# Altium schematic symbol library Connectors Rectangular 4.20 MiniFit.SchLib: 12 symbols
Pins are listed as number, name and electrical type; pins without a type are passive.

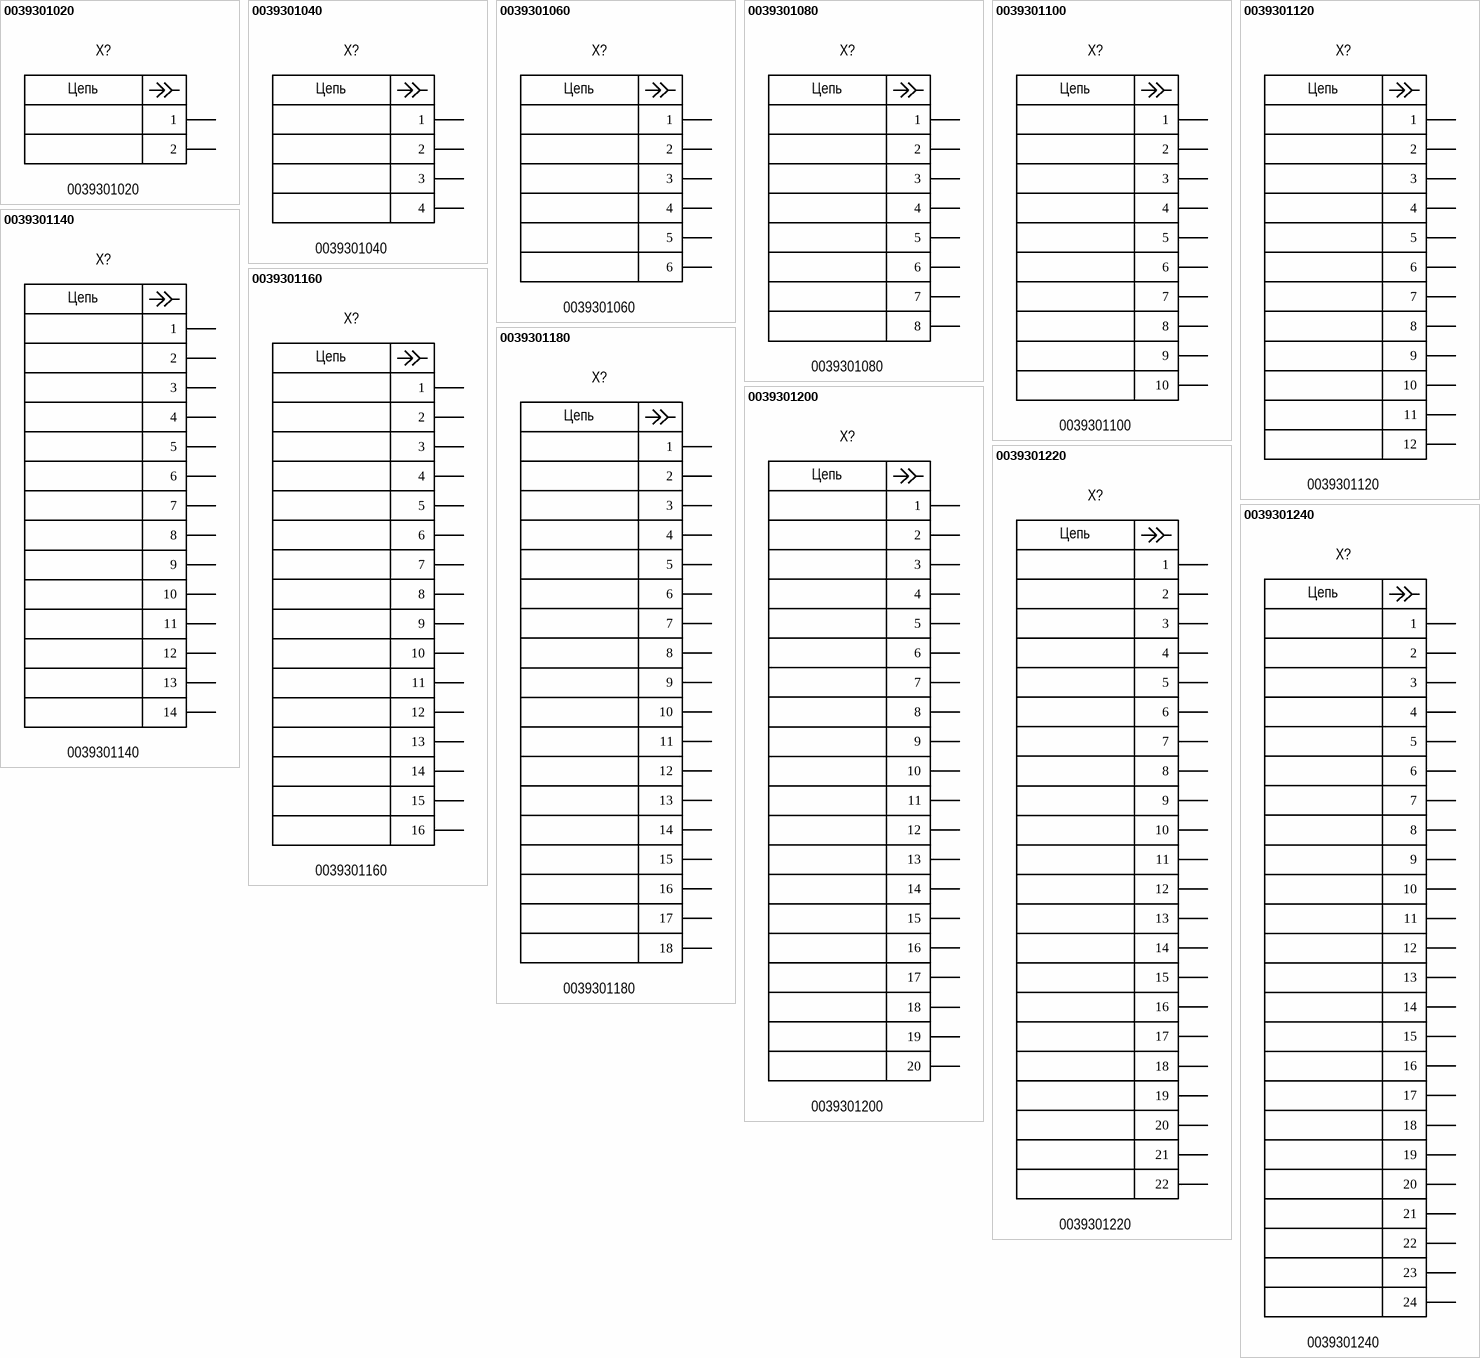
[diagram p0: symbols 0039301020 to 0039301240]

## 0039301020
designator X?
Connector Rectangular 4.20 M 2P2R Board MiniFit; Manufacturer: Molex; Group: Mechanical; Pitch: 4.20mm; Positions: 2; Current rating: 9.0A; Voltage rating: 300V; Placing: Right angle; Shrouding: Shrouded; Connector type: Header; Series name: Mini-Fit; Dimension: 5.40mm x 19.90mm; Operating temperature: -40°C +105°C; Mounting type: Through hole; Package: Connector Rectangular 4.20 M 2P2R Board MiniFit; Part name: 0039301020; Height: 9.60mm; Rows: 2; Insulation color: White; Component: Connector Rectangular; Contact type: Male pin; Fastening type: Locking ramp; Series: 5569; Connector style: Board; System: Connector
footprint 0039301020 (Footprint not found)
pins: 1, 2
text: Цепь

## 0039301040
designator X?
Connector Rectangular 4.20 M 4P2R Board MiniFit; Manufacturer: Molex; Group: Mechanical; Pitch: 4.20mm; Positions: 4; Rows: 2; Current rating: 9.0A; Voltage rating: 300V; Placing: Right angle; Shrouding: Shrouded; Connector type: Header; Series name: Mini-Fit; Dimension: 9.60mm x 19.90mm; Operating temperature: -40°C +105°C; Mounting type: Through hole; Package: Connector Rectangular 4.20 M 4P2R Board MiniFit; Part name: 0039301040; Height: 9.60mm; Insulation color: White; Component: Connector Rectangular; Contact type: Male pin; Fastening type: Locking ramp; Series: 5569; Connector style: Board; System: Connector
footprint 0039301040 (Footprint not found)
pins: 1, 2, 3, 4
text: Цепь

## 0039301060
designator X?
Connector Rectangular 4.20 M 6P2R Board MiniFit; Manufacturer: Molex; Group: Mechanical; Pitch: 4.20mm; Positions: 6; Rows: 2; Current rating: 9.0A; Voltage rating: 300V; Placing: Right angle; Shrouding: Shrouded; Connector type: Header; Series name: Mini-Fit; Dimension: 13.80mm x 19.90mm; Operating temperature: -40°C +105°C; Mounting type: Through hole; Package: Connector Rectangular 4.20 M 6P2R Board MiniFit; Part name: 0039301060; Height: 9.60mm; Insulation color: White; Component: Connector Rectangular; Contact type: Male pin; Fastening type: Locking ramp; Series: 5569; Connector style: Board; System: Connector
footprint 0039301060 (Footprint not found)
pins: 1, 2, 3, 4, 5, 6
text: Цепь

## 0039301080
designator X?
Connector Rectangular 4.20 M 8P2R Board MiniFit; Manufacturer: Molex; Group: Mechanical; Pitch: 4.20mm; Positions: 8; Rows: 2; Current rating: 9.0A; Voltage rating: 300V; Placing: Right angle; Shrouding: Shrouded; Connector type: Header; Series name: Mini-Fit; Dimension: 18.00mm x 19.90mm; Operating temperature: -40°C +105°C; Mounting type: Through hole; Package: Connector Rectangular 4.20 M 8P2R Board MiniFit; Part name: 0039301080; Height: 9.60mm; Insulation color: White; Component: Connector Rectangular; Contact type: Male pin; Fastening type: Locking ramp; Series: 5569; Connector style: Board; System: Connector
footprint 0039301080 (Footprint not found)
pins: 1, 2, 3, 4, 5, 6, 7, 8
text: Цепь

## 0039301100
designator X?
Connector Rectangular 4.20 M 10P2R Board MiniFit; Manufacturer: Molex; Group: Mechanical; Pitch: 4.20mm; Positions: 10; Rows: 2; Current rating: 9.0A; Voltage rating: 300V; Placing: Right angle; Shrouding: Shrouded; Connector type: Header; Series name: Mini-Fit; Dimension: 22.20mm x 19.90mm; Operating temperature: -40°C +105°C; Mounting type: Through hole; Package: Connector Rectangular 4.20 M 10P2R Board MiniFit; Part name: 0039301100; Height: 9.60mm; Insulation color: White; Component: Connector Rectangular; Contact type: Male pin; Fastening type: Locking ramp; Series: 5569; Connector style: Board; System: Connector
footprint 0039301100 (Footprint not found)
pins: 1, 2, 3, 4, 5, 6, 7, 8, 9, 10
text: Цепь

## 0039301120
designator X?
Connector Rectangular 4.20 M 12P2R Board MiniFit; Manufacturer: Molex; Group: Mechanical; Pitch: 4.20mm; Positions: 12; Rows: 2; Current rating: 9.0A; Voltage rating: 300V; Placing: Right angle; Shrouding: Shrouded; Connector type: Header; Series name: Mini-Fit; Dimension: 26.40mm x 19.90mm; Operating temperature: -40°C +105°C; Mounting type: Through hole; Package: Connector Rectangular 4.20 M 12P2R Board MiniFit; Part name: 0039301120; Height: 9.60mm; Insulation color: White; Component: Connector Rectangular; Contact type: Male pin; Fastening type: Locking ramp; Series: 5569; Connector style: Board; System: Connector
footprint 0039301120 (Footprint not found)
pins: 1, 2, 3, 4, 5, 6, 7, 8, 9, 10, 11, 12
text: Цепь

## 0039301140
designator X?
Connector Rectangular 4.20 M 14P2R Board MiniFit; Manufacturer: Molex; Group: Mechanical; Pitch: 4.20mm; Positions: 14; Rows: 2; Current rating: 9.0A; Voltage rating: 300V; Placing: Right angle; Shrouding: Shrouded; Connector type: Header; Series name: Mini-Fit; Dimension: 30.60mm x 19.90mm; Operating temperature: -40°C +105°C; Mounting type: Through hole; Package: Connector Rectangular 4.20 M 14P2R Board MiniFit; Part name: 0039301140; Height: 9.60mm; Insulation color: White; Component: Connector Rectangular; Contact type: Male pin; Fastening type: Locking ramp; Series: 5569; Connector style: Board; System: Connector
footprint 0039301140 (Footprint not found)
pins: 1, 2, 3, 4, 5, 6, 7, 8, 9, 10, 11, 12, 13, 14
text: Цепь

## 0039301160
designator X?
Connector Rectangular 4.20 M 16P2R Board MiniFit; Manufacturer: Molex; Group: Mechanical; Pitch: 4.20mm; Positions: 16; Rows: 2; Current rating: 9.0A; Voltage rating: 300V; Placing: Right angle; Shrouding: Shrouded; Connector type: Header; Series name: Mini-Fit; Dimension: 34.80mm x 19.90mm; Operating temperature: -40°C +105°C; Mounting type: Through hole; Package: Connector Rectangular 4.20 M 16P2R Board MiniFit; Part name: 0039301160; Height: 9.60mm; Insulation color: White; Component: Connector Rectangular; Contact type: Male pin; Fastening type: Locking ramp; Series: 5569; Connector style: Board; System: Connector
footprint 0039301160 (Footprint not found)
pins: 1, 2, 3, 4, 5, 6, 7, 8, 9, 10, 11, 12, 13, 14, 15, 16
text: Цепь

## 0039301180
designator X?
Connector Rectangular 4.20 M 18P2R Board MiniFit; Manufacturer: Molex; Group: Mechanical; Pitch: 4.20mm; Positions: 18; Rows: 2; Current rating: 9.0A; Voltage rating: 300V; Placing: Right angle; Shrouding: Shrouded; Connector type: Header; Series name: Mini-Fit; Dimension: 39.00mm x 19.90mm; Operating temperature: -40°C +105°C; Mounting type: Through hole; Package: Connector Rectangular 4.20 M 18P2R Board MiniFit; Part name: 0039301180; Height: 9.60mm; Insulation color: White; Component: Connector Rectangular; Contact type: Male pin; Fastening type: Locking ramp; Series: 5569; Connector style: Board; System: Connector
footprint 0039301180 (Footprint not found)
pins: 1, 2, 3, 4, 5, 6, 7, 8, 9, 10, 11, 12, 13, 14, 15, 16, 17, 18
text: Цепь

## 0039301200
designator X?
Connector Rectangular 4.20 M 20P2R Board MiniFit; Manufacturer: Molex; Group: Mechanical; Pitch: 4.20mm; Positions: 20; Rows: 2; Current rating: 9.0A; Voltage rating: 300V; Placing: Right angle; Shrouding: Shrouded; Connector type: Header; Series name: Mini-Fit; Dimension: 43.20mm x 19.90mm; Operating temperature: -40°C +105°C; Mounting type: Through hole; Package: Connector Rectangular 4.20 M 20P2R Board MiniFit; Part name: 0039301200; Height: 9.60mm; Insulation color: White; Component: Connector Rectangular; Contact type: Male pin; Fastening type: Locking ramp; Series: 5569; Connector style: Board; System: Connector
footprint 0039301200 (Footprint not found)
pins: 1, 2, 3, 4, 5, 6, 7, 8, 9, 10, 11, 12, 13, 14, 15, 16, 17, 18, 19, 20
text: Цепь

## 0039301220
designator X?
Connector Rectangular 4.20 M 22P2R Board MiniFit; Manufacturer: Molex; Group: Mechanical; Pitch: 4.20mm; Positions: 22; Rows: 2; Current rating: 9.0A; Voltage rating: 300V; Placing: Right angle; Shrouding: Shrouded; Connector type: Header; Series name: Mini-Fit; Dimension: 47.40mm x 19.90mm; Operating temperature: -40°C +105°C; Mounting type: Through hole; Package: Connector Rectangular 4.20 M 22P2R Board MiniFit; Part name: 0039301220; Height: 9.60mm; Insulation color: White; Component: Connector Rectangular; Contact type: Male pin; Fastening type: Locking ramp; Series: 5569; Connector style: Board; System: Connector
footprint 0039301220 (Footprint not found)
pins: 1, 2, 3, 4, 5, 6, 7, 8, 9, 10, 11, 12, 13, 14, 15, 16, 17, 18, 19, 20, 21, 22
text: Цепь

## 0039301240
designator X?
Connector Rectangular 4.20 M 24P2R Board MiniFit; Manufacturer: Molex; Group: Mechanical; Pitch: 4.20mm; Positions: 24; Rows: 2; Current rating: 9.0A; Voltage rating: 300V; Placing: Right angle; Shrouding: Shrouded; Connector type: Header; Series name: Mini-Fit; Dimension: 51.60mm x 19.90mm; Operating temperature: -40°C +105°C; Mounting type: Through hole; Package: Connector Rectangular 4.20 M 24P2R Board MiniFit; Part name: 0039301240; Height: 9.60mm; Insulation color: White; Component: Connector Rectangular; Contact type: Male pin; Fastening type: Locking ramp; Series: 5569; Connector style: Board; System: Connector
footprint 0039301240 (Footprint not found)
pins: 1, 2, 3, 4, 5, 6, 7, 8, 9, 10, 11, 12, 13, 14, 15, 16, 17, 18, 19, 20, 21, 22, 23, 24
text: Цепь